# EAGLE library part RF-8001-R2Q32 (library IC)
310060013
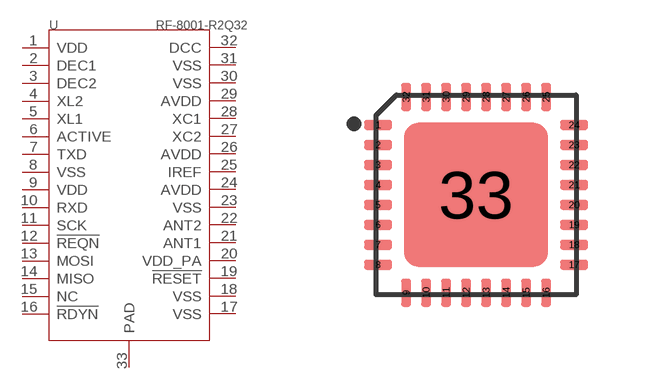
[diagram p35: symbol with the pads of QFN32; footprint QFN32]

Designator prefix U

## RF-8001-R2Q32-310060013  [QFN32]
1  VDD
2  DEC1
3  DEC2
4  XL2
5  XL1
6  ACTIVE
7  TXD
8  VSS
9  VDD
10  RXD
11  SCK
12  !REQN
13  MOSI
14  MISO
15  NC
16  !RDYN
17  VSS
18  VSS
19  !RESET
20  VDD_PA
21  ANT1
22  ANT2
23  VSS
24  AVDD
25  IREF
26  AVDD
27  XC2
28  XC1
29  AVDD
30  VSS
31  VSS
32  DCC
33  PAD

## Footprint QFN32 (pad centres in mm)
smd 0.7 x 0.25: 1 -2.45,1.75; 2 -2.45,1.25; 3 -2.45,0.75; 4 -2.45,0.25; 5 -2.45,-0.25; 6 -2.45,-0.75; 7 -2.45,-1.25; 8 -2.45,-1.75; 17 2.45,-1.75; 18 2.45,-1.25; 19 2.45,-0.75; 20 2.45,-0.25; 21 2.45,0.25; 22 2.45,0.75; 23 2.45,1.25; 24 2.45,1.75
smd 0.25 x 0.7: 9 -1.75,-2.45; 10 -1.25,-2.45; 11 -0.75,-2.45; 12 -0.25,-2.45; 13 0.25,-2.45; 14 0.75,-2.45; 15 1.25,-2.45; 16 1.75,-2.45; 25 1.75,2.45; 26 1.25,2.45; 27 0.75,2.45; 28 0.25,2.45; 29 -0.25,2.45; 30 -0.75,2.45; 31 -1.25,2.45; 32 -1.75,2.45
smd 3.6 x 3.6: 33 0,0